# Altium schematic symbol library Flight_Computer1.SCHLIB: 60 symbols (part 2 of 4)
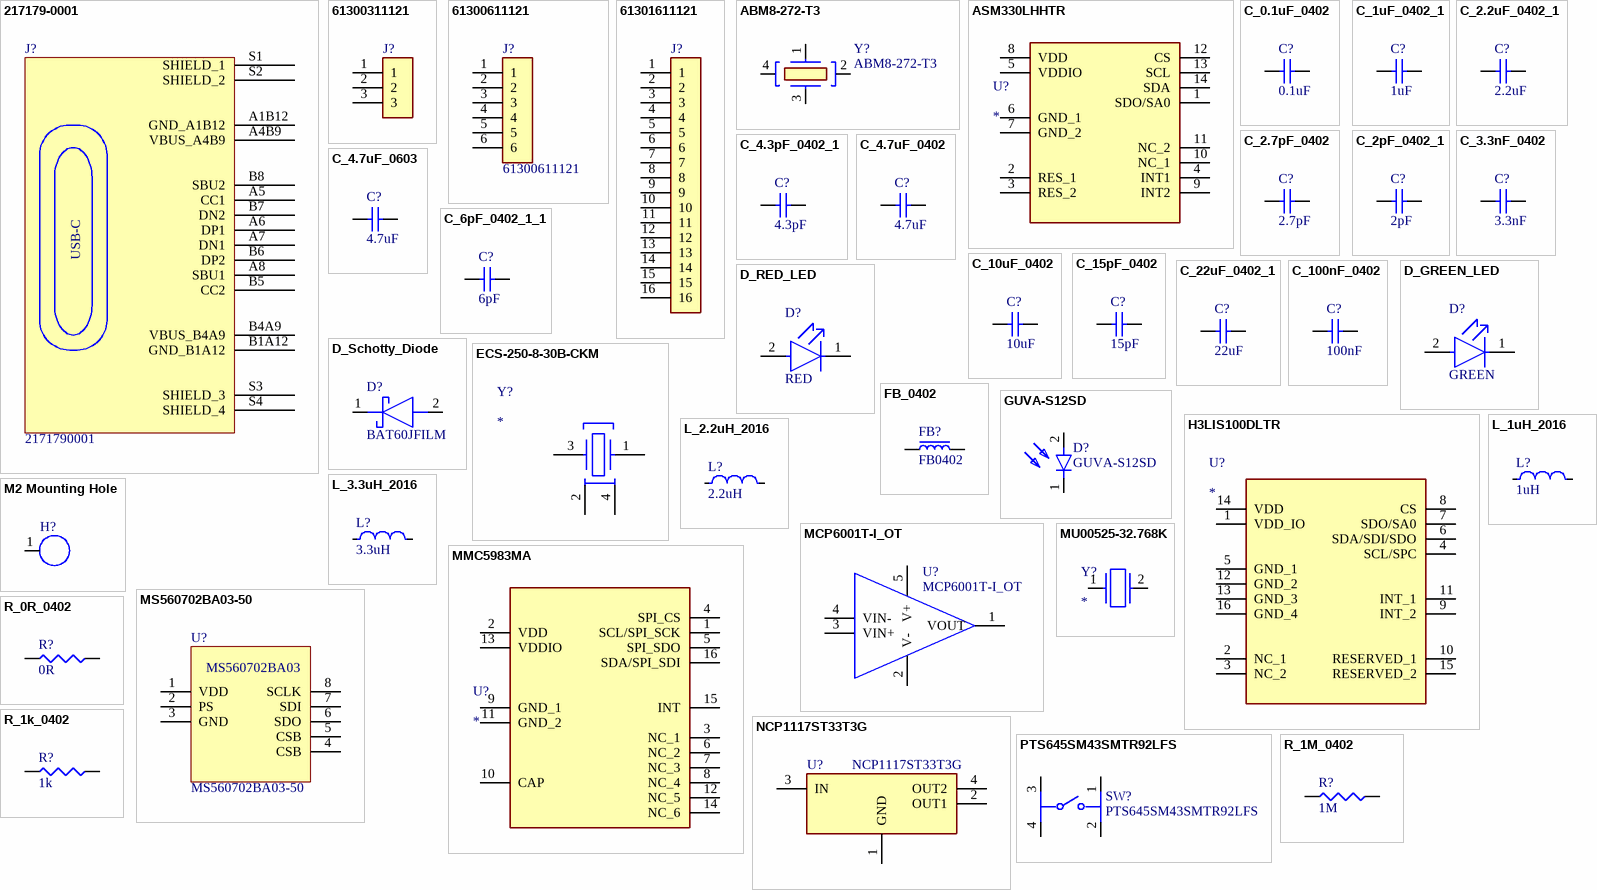
[diagram p2: symbols 217179-0001 to R_1M_0402]

## C_15pF_0402
designator C?, comment 15pF
CAP CER 15PF 50V C0G/NPO 0402; Manufacturer: Yageo Group; Manufacturer Part Number: CC0402FRNPO9BN150; Dielectric: C0G; Dielectric Material: Ceramic; Tolerance: 1%; LCSC Part #: C326803; Supplier: DigiKey; Supplier Part Number: 311-1642-6-ND; RoHS: Compliant; Category: Ceramic Capacitors; Stock: 63811; Pricing: 1=0.1, 10=0.049, 50=0.0334, 100=0.0288, 500=0.021, 1000=0.01861, 2500=0.01608, 5000=0.01457 (USD); Value: 15pF; Case/Package: 0402; Case Code (Imperial): 0402; Case Code (Metric): 1005; China RoHS: Compliant; Composition: Ceramic; Depth: 500µm; Halogen Free: Halogen Free; Height: 500µm; Lead Free: Lead Free; Length: 1mm; Lifecycle Status: Production; Max Operating Temperature: 125°C; Min Operating Temperature: -55°C; Mounting Technology: Surface Mount; Number of Terminals: 2; Packaging: Tape and Reel; Radiation Hardening: No; REACH SVHC: Yes; Schedule B: 8532240020, 8532240020|8532240020, 8532240020|8532240020|8532240020, 8532240020|8532240020|8532240020|8532240020; Termination: SMD/SMT; Thickness: 558.8µm; Voltage Rating: 50V; Voltage Rating (DC): 50V; Weight: 652.039032µg; Width: 500µm; ComponentLink1URL: https://datasheet.octopart.com:443/CC0402FRNPO9BN150-Yageo-datasheet-182140217.pdf?src-supplier=IHS; ComponentLink1Description: https://datasheet.octopart.com:443/CC0402FRNPO9BN150-Yageo-datasheet-182140217.pdf?src-supplier=IHS; ComponentLink2URL: https://datasheet.octopart.com:443/CC0402FRNPO9BN150-Yageo-Group-datasheet-189192896.pdf?src-supplier=TME; ComponentLink2Description: https://datasheet.octopart.com:443/CC0402FRNPO9BN150-Yageo-Group-datasheet-189192896.pdf?src-supplier=TME; ComponentLink3URL: https://datasheet.octopart.com:443/CC0402FRNPO9BN150-Yageo-datasheet-151948684.pdf?src-supplier=element14+APAC; ComponentLink3Description: https://datasheet.octopart.com:443/CC0402FRNPO9BN150-Yageo-datasheet-151948684.pdf?src-supplier=element14+APAC; ComponentLink4URL: https://datasheet.octopart.com:443/CC0402FRNPO9BN150-Yageo-datasheet-181966833.pdf?src-supplier=Farnell; ComponentLink4Description: https://datasheet.octopart.com:443/CC0402FRNPO9BN150-Yageo-datasheet-181966833.pdf?src-supplier=Farnell; ComponentLink5URL: https://datasheet.octopart.com:443/CC0402FRNPO9BN150-Yageo-datasheet-137875056.pdf?src-supplier=Future+Electronics; ComponentLink5Description: https://datasheet.octopart.com:443/CC0402FRNPO9BN150-Yageo-datasheet-137875056.pdf?src-supplier=Future+Electronics; ComponentLink6URL: https://datasheet.octopart.com:443/CC0402FRNPO9BN150-Yageo-datasheet-137700082.pdf?src-supplier=Future+Electronics; ComponentLink6Description: https://datasheet.octopart.com:443/CC0402FRNPO9BN150-Yageo-datasheet-137700082.pdf?src-supplier=Future+Electronics; ComponentLink7URL: https://datasheet.octopart.com:443/CC0402FRNPO9BN150-Yageo-datasheet-78855684.pdf?src-supplier=Future+Electronics; ComponentLink7Description: https://datasheet.octopart.com:443/CC0402FRNPO9BN150-Yageo-datasheet-78855684.pdf?src-supplier=Future+Electronics; ComponentLink8URL: https://datasheet.octopart.com:443/CC0402FRNPO9BN150-Yageo-datasheet-16730043.pdf?src-supplier=Future+Electronics; ComponentLink8Description: https://datasheet.octopart.com:443/CC0402FRNPO9BN150-Yageo-datasheet-16730043.pdf?src-supplier=Future+Electronics; ComponentLink9URL: https://datasheet.octopart.com:443/CC0402FRNPO9BN150-Yageo-datasheet-12589826.pdf?src-supplier=Future+Electronics; ComponentLink9Description: https://datasheet.octopart.com:443/CC0402FRNPO9BN150-Yageo-datasheet-12589826.pdf?src-supplier=Future+Electronics; ComponentLink10URL: https://datasheet.octopart.com:443/CC0402FRNPO9BN150-Yageo-datasheet-10406438.pdf?src-supplier=Future+Electronics; ComponentLink10Description: https://datasheet.octopart.com:443/CC0402FRNPO9BN150-Yageo-datasheet-10406438.pdf?src-supplier=Future+Electronics; ComponentLink11URL: https://datasheet.octopart.com:443/CC0402FRNPO9BN150-Yageo-datasheet-8817079.pdf?src-supplier=Future+Electronics; ComponentLink11Description: https://datasheet.octopart.com:443/CC0402FRNPO9BN150-Yageo-datasheet-8817079.pdf?src-supplier=Future+Electronics; ComponentLink12URL: https://datasheet.octopart.com:443/CC0402FRNPO9BN150-Yageo-datasheet-8324240.pdf?src-supplier=Future+Electronics; ComponentLink12Description: https://datasheet.octopart.com:443/CC0402FRNPO9BN150-Yageo-datasheet-8324240.pdf?src-supplier=Future+Electronics; ComponentLink13URL: https://datasheet.octopart.com:443/CC0402FRNPO9BN150-Yageo-datasheet-504625.pdf?src-supplier=Future+Electronics; ComponentLink13Description: https://datasheet.octopart.com:443/CC0402FRNPO9BN150-Yageo-datasheet-504625.pdf?src-supplier=Future+Electronics; ComponentLink14URL: https://datasheet.octopart.com:443/CC0402FRNPO9BN150-Yageo-datasheet-5321569.pdf?src-supplier=Future+Electronics; ComponentLink14Description: https://datasheet.octopart.com:443/CC0402FRNPO9BN150-Yageo-datasheet-5321569.pdf?src-supplier=Future+Electronics; ComponentLink15URL: http://sigma.octopart.com:80/conflict_mineral_statement/Yageo-company-3.pdf?src-supplier=Compliance+Statements; ComponentLink15Description: http://sigma.octopart.com:80/conflict_mineral_statement/Yageo-company-3.pdf?src-supplier=Compliance+Statements; ComponentLink16URL: http://sigma.octopart.com:80/rohs_statement/Yageo-company-2.pdf?src-supplier=Compliance+Statements; ComponentLink16Description: http://sigma.octopart.com:80/rohs_statement/Yageo-company-2.pdf?src-supplier=Compliance+Statements
footprint 0402_C
pins: 1, 2

## C_22uF_0402_1
designator C?, comment 22uF
CAP CER 22UF 10V X5R 0402; Manufacturer: Murata; Manufacturer Part Number: GRM158R61A226ME15D; Manufacturer Lifecycle Status: IN PRODUCTION; Value: 22µF; Dielectric Material: Ceramic; Tolerance: 20%; Supplier: DigiKey; Supplier Part Number: 490-GRM158R61A226ME15DCT-ND; RoHS: Compliant; Category: Ceramic Capacitors; Stock: 154156; Pricing: 1=0.41, 10=0.247, 50=0.1828, 100=0.1632, 500=0.1301, 1000=0.1199, 2500=0.10912, 8000=0.09979, 16000=0.09611, 24000=0.09372, 40000=0.09107, 56000=0.09089, 80000=0.08732 (USD); Case/Package: 0402; Dielectric: X5R; Height: 800µm; Length: 1mm; Lifecycle Status: Production; Material: Ceramic; Max Operating Temperature: 85°C; Min Operating Temperature: -55°C; Mounting Technology: Surface Mount; Number of Terminals: 2; REACH SVHC: Yes; Thickness: 800µm; Voltage Rating: 10V; Voltage Rating (DC): 10V; Width: 500µm; ComponentLink1URL: https://datasheet.octopart.com:443/GRM158R61A226ME15D-Murata-datasheet-165579666.pdf?src-supplier=TME; ComponentLink1Description: https://datasheet.octopart.com:443/GRM158R61A226ME15D-Murata-datasheet-165579666.pdf?src-supplier=TME; ComponentLink2URL: https://datasheet.octopart.com/GRM158R61A226ME15D-Murata-datasheet-12515295.pdf; ComponentLink2Description: https://datasheet.octopart.com/GRM158R61A226ME15D-Murata-datasheet-12515295.pdf; ComponentLink3URL: https://datasheet.octopart.com/GRM158R61A226ME15D-Murata-datasheet-12510076.pdf; ComponentLink3Description: https://datasheet.octopart.com/GRM158R61A226ME15D-Murata-datasheet-12510076.pdf; ComponentLink4URL: https://datasheet.octopart.com/GRM158R61A226ME15D-Murata-datasheet-11978611.pdf; ComponentLink4Description: https://datasheet.octopart.com/GRM158R61A226ME15D-Murata-datasheet-11978611.pdf; ComponentLink5URL: https://datasheet.octopart.com/GRM158R61A226ME15D-Murata-datasheet-10025737.pdf; ComponentLink5Description: https://datasheet.octopart.com/GRM158R61A226ME15D-Murata-datasheet-10025737.pdf; ComponentLink6URL: https://datasheet.octopart.com/GRM158R61A226ME15D-Murata-datasheet-8819587.pdf; ComponentLink6Description: https://datasheet.octopart.com/GRM158R61A226ME15D-Murata-datasheet-8819587.pdf; ComponentLink7URL: http://sigma.octopart.com:80/reach_statement/Murata-company-16.pdf?src-supplier=Compliance+Statements; ComponentLink7Description: http://sigma.octopart.com:80/reach_statement/Murata-company-16.pdf?src-supplier=Compliance+Statements; LCSC Part #: C3845593
footprint 0402_C
pins: 1, 2

## C_100nF_0402
designator C?, comment 100nF
Ceramic Capacitor, Multilayer, Ceramic, 16V, 10% +Tol, 10% -Tol, X7R, +-15% TC, 100nF, Surface Mount, 0402 inch; Manufacturer: Samsung Electro-Mechanics; Manufacturer Part Number: CL05B104KO5NNNC; Supplier: DigiKey; Supplier Part Number: 1276-1001-1-ND; RoHS: Compliant; Category: Ceramic Capacitors; Stock: 253470; Pricing: 1=0.08, 10=0.009, 50=0.0076, 100=0.0064, 500=0.0056, 1000=0.004, 2500=0.00394 (USD); Value: 100nF; Case/Package: 0402; Case Code (Imperial): 0402; Case Code (Metric): 1005; China RoHS: Compliant; Contact Plating: Tin; Depth: 500µm; Dielectric: X7R; Dielectric Material: Ceramic; Height: 500µm; Lead Free: Lead Free; Length: 1mm; Lifecycle Status: Production; Material: Ceramic; Max Operating Temperature: 125°C; Min Operating Temperature: -55°C; Mounting Technology: Surface Mount; Number of Terminals: 2; Radiation Hardening: No; REACH SVHC: Yes; Schedule B: 8532240020, 8532240020|8532240020|8532240020|8532240020|8532240020|8532240020|8532240020|8532240020|8532240020|8532240020|8532240020|8532240020|8532240020|8532240020|8532240020|8532240020|8532240020|8532240020|8532240020|8532240020|8532240020|8532240020|8532240020|85; Thickness: 558.8µm; Tolerance: 10%; Voltage: 16V; Voltage Rating: 16V; Voltage Rating (DC): 16V; Width: 500µm; ComponentLink1URL: https://datasheet.octopart.com:443/CL05B104KO5NNNC-Samsung-Electro-Mechanics-datasheet-181960518.pdf?src-supplier=IHS; ComponentLink1Description: https://datasheet.octopart.com:443/CL05B104KO5NNNC-Samsung-Electro-Mechanics-datasheet-181960518.pdf?src-supplier=IHS; ComponentLink2URL: https://datasheet.octopart.com:443/CL05B104KO5NNNC-Samsung-Electro-Mechanics-datasheet-81461623.pdf?src-supplier=Upverter; ComponentLink2Description: https://datasheet.octopart.com:443/CL05B104KO5NNNC-Samsung-Electro-Mechanics-datasheet-81461623.pdf?src-supplier=Upverter; ComponentLink3URL: https://datasheet.octopart.com/CL05B104KO5NNNC-Samsung-Electro-Mechanics-datasheet-8324245.pdf; ComponentLink3Description: https://datasheet.octopart.com/CL05B104KO5NNNC-Samsung-Electro-Mechanics-datasheet-8324245.pdf; ComponentLink4URL: https://datasheet.octopart.com/CL05B104KO5NNNC-Samsung-Electro-Mechanics-datasheet-97040617.pdf; ComponentLink4Description: https://datasheet.octopart.com/CL05B104KO5NNNC-Samsung-Electro-Mechanics-datasheet-97040617.pdf; ComponentLink5URL: https://datasheet.octopart.com/General-Multilayer-Ceramic-Capacitors-Samsung-datasheet-family-111.pdf; ComponentLink5Description: https://datasheet.octopart.com/General-Multilayer-Ceramic-Capacitors-Samsung-datasheet-family-111.pdf; ComponentLink6URL: https://datasheet.octopart.com:443/CL05B104KO5NNNC-Samsung-Electro-Mechanics-datasheet-141346863.pdf?src-supplier=Samsung+SCT; ComponentLink6Description: https://datasheet.octopart.com:443/CL05B104KO5NNNC-Samsung-Electro-Mechanics-datasheet-141346863.pdf?src-supplier=Samsung+SCT; ComponentLink7URL: https://datasheet.octopart.com:443/CL05B104KO5NNNC-Samsung-datasheet-151956582.pdf?src-supplier=SOS+electronic; ComponentLink7Description: https://datasheet.octopart.com:443/CL05B104KO5NNNC-Samsung-datasheet-151956582.pdf?src-supplier=SOS+electronic; ComponentLink8URL: https://datasheet.octopart.com:443/CL05B104KO5NNNC-Samsung-datasheet-42485123.pdf?src-supplier=Future+Electronics; ComponentLink8Description: https://datasheet.octopart.com:443/CL05B104KO5NNNC-Samsung-datasheet-42485123.pdf?src-supplier=Future+Electronics; ComponentLink9URL: https://datasheet.octopart.com:443/CL05B104KO5NNNC-Samsung-datasheet-34153835.pdf?src-supplier=Future+Electronics; ComponentLink9Description: https://datasheet.octopart.com:443/CL05B104KO5NNNC-Samsung-datasheet-34153835.pdf?src-supplier=Future+Electronics; ComponentLink10URL: https://datasheet.octopart.com:443/CL05B104KO5NNNC-Samsung-datasheet-26589024.pdf?src-supplier=Future+Electronics; ComponentLink10Description: https://datasheet.octopart.com:443/CL05B104KO5NNNC-Samsung-datasheet-26589024.pdf?src-supplier=Future+Electronics; ComponentLink11URL: https://datasheet.octopart.com:443/CL05B104KO5NNNC-Samsung-Electro-Mechanics-datasheet-149136714.pdf?src-supplier=Future+Electronics; ComponentLink11Description: https://datasheet.octopart.com:443/CL05B104KO5NNNC-Samsung-Electro-Mechanics-datasheet-149136714.pdf?src-supplier=Future+Electronics; ComponentLink12URL: https://datasheet.octopart.com:443/CL05B104KO5NNNC-Samsung-datasheet-59220082.pdf?src-supplier=TME; ComponentLink12Description: https://datasheet.octopart.com:443/CL05B104KO5NNNC-Samsung-datasheet-59220082.pdf?src-supplier=TME; ComponentLink13URL: http://sigma.octopart.com:80/rohs_certificate/General-Multilayer-Ceramic-Capacitors-Samsung-family-110.pdf?src-supplier=Compliance+Statements; ComponentLink13Description: http://sigma.octopart.com:80/rohs_certificate/General-Multilayer-Ceramic-Capacitors-Samsung-family-110.pdf?src-supplier=Compliance+Statements; ComponentLink14URL: http://sigma.octopart.com:80/rohs_statement/General-Multilayer-Ceramic-Capacitors-Samsung-family-132.pdf?src-supplier=Compliance+Statements; ComponentLink14Description: http://sigma.octopart.com:80/rohs_statement/General-Multilayer-Ceramic-Capacitors-Samsung-family-132.pdf?src-supplier=Compliance+Statements; ComponentLink15URL: http://sigma.octopart.com:80/reach_statement/General-Multilayer-Ceramic-Capacitors-Samsung-family-133.pdf?src-supplier=Compliance+Statements; ComponentLink15Description: http://sigma.octopart.com:80/reach_statement/General-Multilayer-Ceramic-Capacitors-Samsung-family-133.pdf?src-supplier=Compliance+Statements; LCSC Part #: C1525
footprint 0402_C
pins: 1, 2

## D_GREEN_LED
designator D?, comment GREEN
Green LED; LCSC Part #: C434446
footprint LEDC1005X35N
pins: 1 C, 2 A

## D_RED_LED
designator D?, comment RED
RED LED; LCSC Part #: C397045
footprint LEDC1005X35N
pins: 1 C, 2 A

## D_Schotty_Diode
designator D?, comment BAT60JFILM
Diode Small Signal Schottky 10V 3A Automotive 2-Pin SOD-323 T/R; Manufacturer: STMicroelectronics; Element Configuration: Single; Forward Voltage: 320mV; Max Forward Surge Current (Ifsm): 5A; Max Junction Temperature (Tj): 150°C; Max Power Dissipation: 310mW; Max Reverse Leakage Current: 7.5µA; Number of Elements: 1; Peak Reverse Current: 2.5µA; Polarity: Standard; Supplier: DigiKey; Supplier Part Number: 497-3707-1-ND; Manufacturer Part Number: BAT60JFILM; RoHS: Compliant; Category: Schottky Diodes; Stock: 96297; Pricing: 1=0.29, 10=0.14, 100=0.1213, 500=0.08962, 1000=0.07938 (USD); Average Rectified Current: 3A; China RoHS: Compliant; Contact Plating: Tin; Current Rating: 3A; Forward Current: 3A; Height: 1.17mm; Lead Free: Lead Free; Length: 1.8mm; Lifecycle Status: Production; Max Operating Temperature: 150°C; Max Output current: 3A; Max Repetitive Reverse Voltage (Vrrm): 10V; Max Reverse Voltage (DC): 10V; Max Surge Current: 5A; Min Operating Temperature: -65°C; Mounting Technology: Surface Mount; Pins: 2; Number of Terminals: 2; Output Current: 3A; Packaging: Tape and Reel; Peak Non-Repetitive Surge Current: 5A; Radiation Hardening: No; REACH SVHC: Yes; Reverse Standoff Voltage: 10V; Schedule B: 8541100080, 8541100080|8541100080|8541100080|8541100080|8541100080|8541100080|8541100080|8541100080|8541100080|8541100080|8541100080|8541100080|8541100080|8541100080|8541100080|8541100080|8541100080|8541100080|8541100080|8541100080|8541100080|8541100080|8541100080|85; Voltage Rating (DC): 10V; Weight: 4.535924g; Width: 1.45mm; ComponentLink1URL: https://datasheet.octopart.com:443/BAT60JFILM-STMicroelectronics-datasheet-56177.pdf?src-supplier=STMicroelectronics; ComponentLink1Description: https://datasheet.octopart.com:443/BAT60JFILM-STMicroelectronics-datasheet-56177.pdf?src-supplier=STMicroelectronics; ComponentLink2URL: https://datasheet.octopart.com:443/BAT60JFILM-STMicroelectronics-datasheet-12532682.pdf?src-supplier=TME; ComponentLink2Description: https://datasheet.octopart.com:443/BAT60JFILM-STMicroelectronics-datasheet-12532682.pdf?src-supplier=TME; ComponentLink3URL: https://datasheet.octopart.com:443/BAT60JFILM-STMicroelectronics-datasheet-181242469.pdf?src-supplier=Newark; ComponentLink3Description: https://datasheet.octopart.com:443/BAT60JFILM-STMicroelectronics-datasheet-181242469.pdf?src-supplier=Newark; ComponentLink4URL: https://datasheet.octopart.com:443/BAT60JFILM-STMicroelectronics-datasheet-14054140.pdf?src-supplier=iiiC; ComponentLink4Description: https://datasheet.octopart.com:443/BAT60JFILM-STMicroelectronics-datasheet-14054140.pdf?src-supplier=iiiC; LCSC Part #: C133103
footprint SOD2513X117N
pins: 1 K, 2 A

## ECS-250-8-30B-CKM
designator Y?
Crystal 25MHz ±10ppm (Tol) ±10ppm (Stability) 8pF FUND 30Ohm 4-Pin Mini-SMD T/R; Manufacturer_Name: ECS; Manufacturer_Part_Number: ECS-250-8-30B-CKM; Manufacturer: ECS International; ESR (Equivalent Series Resistance): 30Ω; Frequency Tolerance: 0.001%; Datasheet Link: https://ecsxtal.com/store/pdf/ecx_53b.pdf; Height: 0.85mm; Mouser Part Number: 520-250-8-30B-CKM; Mouser Price/Stock: https://www.mouser.com/Search/Refine.aspx?Keyword=520-250-8-30B-CKM; Arrow Part Number: ECS-250-8-30B-CKM; Arrow Price/Stock: https://www.arrow.com/en/products/ecs-250-8-30b-ckm/ecs-international?utm_currency=USD&region=nac; Supplier: DigiKey; Supplier Part Number: XC1843CT-ND; Manufacturer Part Number: ECS-250-8-30B-CKM; RoHS: Compliant; Category: Crystals; Stock: 32779; Pricing: 1=0.61, 10=0.528, 25=0.4992, 50=0.4788, 100=0.4589, 250=0.4424 (USD); Case/Package: SMD/SMT; Frequency: 25MHz; Frequency Stability: 10ppm; Lead Free: Lead Free; Length: 5.0038mm; Load Capacitance: 8pF; Max Operating Temperature: 70°C; Min Operating Temperature: -20°C; Mounting Technology: Surface Mount; Schedule B: 8541600060, 8541600060|8541600060|8541600060|8541600060|8541600060|8541600060|8541600060|8541600060|8541600060|8541600060|8541600060|8541600060|8541600060|8541600060, 8541600060|8541600060|8541600060|8541600060|8541600060|8541600060|8541600060|8541600060|8541600060|8541600060|8541600060|8541600060|8541600060|8541600060|8541600060, 8541600060|8541600060|8541600060|8541600060|8541600060|8541600060|8541600060|8541600060|8541600060|8541600060|8541600060|8541600060|8541600060|8541600060|8541600060|8541600060; Termination: SMD/SMT; Tolerance: 0.001%; Width: 3.2mm; ComponentLink1URL: https://datasheet.octopart.com:443/ECS-250-8-30B-CKM-ECS-International-datasheet-17018651.pdf?src-supplier=Electro+Sonic; ComponentLink1Description: https://datasheet.octopart.com:443/ECS-250-8-30B-CKM-ECS-International-datasheet-17018651.pdf?src-supplier=Electro+Sonic; ComponentLink2URL: https://datasheet.octopart.com:443/ECS-250-8-30B-CKM-ECS-International-datasheet-145012644.pdf?src-supplier=Electro+Sonic; ComponentLink2Description: https://datasheet.octopart.com:443/ECS-250-8-30B-CKM-ECS-International-datasheet-145012644.pdf?src-supplier=Electro+Sonic; LCSC Part #: C435192
footprint ECS250830BCKM
pins: 1, 2 "GND", 3, 4 "GND"

## FB_0402
designator FB?, comment FB0402
Ferrite Beads Multi-Layer 600Ohm 25% 100MHz 300mA 520mOhm DCR 0402 Paper T/R; Manufacturer: Murata Electronics; Manufacturer Part Number: BLM15AG601SN1D; DC Resistance (DCR): 520mΩ; Impedance: 600Ω; Material: Ferrite, Steel; Number of Circuits: 1; Shielding: Unshielded; Distributor Link: *; LCSC Part #: C76884; Supplier: DigiKey; Supplier Part Number: 490-1006-1-ND; RoHS: Compliant; Category: Ferrite Beads and Chips; Stock: 347218; Pricing: 1=0.1, 10=0.043, 25=0.0376, 50=0.034, 100=0.0305, 250=0.02632, 500=0.02346, 1000=0.02083, 5000=0.01546, 10000=0.01341, 20000=0.01188 (USD); Case/Package: 0402; Case Code (Imperial): 0402; Case Code (Metric): 1005; Core Material: Ferrite; Current Rating: 300mA; DC Current: 300mA; Depth: 550µm; Frequency: 100MHz; Height: 500µm; Lead Free: Lead Free; Length: 1mm; Lifecycle Status: Production; Max Current Rating: 300mA; Max DC Current: 300mA; Clock Frequency: 100MHz; Max Operating Temperature: 125°C; Military Standard: Not; Min Operating Temperature: -55°C; Number of Lines: 1; Pins: 2; Number of Terminals: 2; Packaging: Tape and Reel; Radiation Hardening: No; REACH SVHC: Yes; RMS Current (Irms): 300mA; Schedule B: 8504500000, 8504500000|8504500000, 8504500000|8504500000|8504500000, 8504500000|8504500000|8504500000|8504500000; ESR: 520mΩ; Termination: SMD/SMT; Test Frequency: 100MHz; Tolerance: 25%; Width: 500µm; ComponentLink1URL: https://datasheet.octopart.com:443/BLM15AG601SN1D-Murata-datasheet-180806368.pdf?src-supplier=Newark; ComponentLink1Description: https://datasheet.octopart.com:443/BLM15AG601SN1D-Murata-datasheet-180806368.pdf?src-supplier=Newark; ComponentLink2URL: https://datasheet.octopart.com:443/BLM15AG601SN1D-Murata-datasheet-12522583.pdf?src-supplier=Upverter; ComponentLink2Description: https://datasheet.octopart.com:443/BLM15AG601SN1D-Murata-datasheet-12522583.pdf?src-supplier=Upverter; ComponentLink3URL: https://datasheet.octopart.com:443/BLM15AG601SN1D-Murata-datasheet-10083551.pdf?src-supplier=Upverter; ComponentLink3Description: https://datasheet.octopart.com:443/BLM15AG601SN1D-Murata-datasheet-10083551.pdf?src-supplier=Upverter; ComponentLink4URL: https://datasheet.octopart.com:443/BLM15AG601SN1D-Murata-datasheet-8508678.pdf?src-supplier=Upverter; ComponentLink4Description: https://datasheet.octopart.com:443/BLM15AG601SN1D-Murata-datasheet-8508678.pdf?src-supplier=Upverter; ComponentLink5URL: https://datasheet.octopart.com:443/BLM15AG601SN1D-Murata-datasheet-70271.pdf?src-supplier=element14+APAC; ComponentLink5Description: https://datasheet.octopart.com:443/BLM15AG601SN1D-Murata-datasheet-70271.pdf?src-supplier=element14+APAC; ComponentLink6URL: https://datasheet.octopart.com:443/BLM15AG601SN1D-Murata-datasheet-11772092.pdf?src-supplier=Future+Electronics; ComponentLink6Description: https://datasheet.octopart.com:443/BLM15AG601SN1D-Murata-datasheet-11772092.pdf?src-supplier=Future+Electronics; ComponentLink7URL: https://datasheet.octopart.com:443/BLM15AG601SN1D-Murata-datasheet-13536432.pdf?src-supplier=Future+Electronics; ComponentLink7Description: https://datasheet.octopart.com:443/BLM15AG601SN1D-Murata-datasheet-13536432.pdf?src-supplier=Future+Electronics; ComponentLink8URL: https://datasheet.octopart.com:443/BLM15AG601SN1D-Murata-datasheet-79879196.pdf?src-supplier=Future+Electronics; ComponentLink8Description: https://datasheet.octopart.com:443/BLM15AG601SN1D-Murata-datasheet-79879196.pdf?src-supplier=Future+Electronics; ComponentLink9URL: https://datasheet.octopart.com:443/BLM15AG601SN1D-Murata-datasheet-13563506.pdf?src-supplier=Future+Electronics; ComponentLink9Description: https://datasheet.octopart.com:443/BLM15AG601SN1D-Murata-datasheet-13563506.pdf?src-supplier=Future+Electronics; ComponentLink10URL: https://datasheet.octopart.com:443/BLM15AG601SN1D-Murata-datasheet-12545319.pdf?src-supplier=Future+Electronics; ComponentLink10Description: https://datasheet.octopart.com:443/BLM15AG601SN1D-Murata-datasheet-12545319.pdf?src-supplier=Future+Electronics; ComponentLink11URL: https://datasheet.octopart.com:443/BLM15AG601SN1D-Murata-datasheet-141257741.pdf?src-supplier=Ciiva; ComponentLink11Description: https://datasheet.octopart.com:443/BLM15AG601SN1D-Murata-datasheet-141257741.pdf?src-supplier=Ciiva; ComponentLink12URL: https://datasheet.octopart.com:443/BLM15AG601SN1D-Murata-datasheet-138706486.pdf?src-supplier=Ciiva; ComponentLink12Description: https://datasheet.octopart.com:443/BLM15AG601SN1D-Murata-datasheet-138706486.pdf?src-supplier=Ciiva; ComponentLink13URL: https://datasheet.octopart.com:443/BLM15AG601SN1D-Murata-datasheet-155367977.pdf?src-supplier=TME; ComponentLink13Description: https://datasheet.octopart.com:443/BLM15AG601SN1D-Murata-datasheet-155367977.pdf?src-supplier=TME; ComponentLink14URL: https://datasheet.octopart.com:443/BLM15AG601SN1D-Murata-datasheet-65816644.pdf?src-supplier=TME; ComponentLink14Description: https://datasheet.octopart.com:443/BLM15AG601SN1D-Murata-datasheet-65816644.pdf?src-supplier=TME; ComponentLink15URL: https://datasheet.octopart.com:443/BLM15AG601SN1D-Murata-datasheet-102761981.pdf?src-supplier=Megastar; ComponentLink15Description: https://datasheet.octopart.com:443/BLM15AG601SN1D-Murata-datasheet-102761981.pdf?src-supplier=Megastar; ComponentLink16URL: https://datasheet.octopart.com/BLM15AG601SN1D-Murata-datasheet-37129980.pdf; ComponentLink16Description: https://datasheet.octopart.com/BLM15AG601SN1D-Murata-datasheet-37129980.pdf; ComponentLink17URL: https://datasheet.octopart.com:443/BLM15AG601SN1D-Murata-datasheet-14066398.pdf?src-supplier=iiiC; ComponentLink17Description: https://datasheet.octopart.com:443/BLM15AG601SN1D-Murata-datasheet-14066398.pdf?src-supplier=iiiC; ComponentLink18URL: http://sigma.octopart.com:80/reach_statement/Murata-company-16.pdf?src-supplier=Compliance+Statements; ComponentLink18Description: http://sigma.octopart.com:80/reach_statement/Murata-company-16.pdf?src-supplier=Compliance+Statements
footprint 0402_R
pins: 1, 2

## GUVA-S12SD
designator D?
SENSOR PHOTODIODE 2SMD; Manufacturer_Name: Genicom Co.; Datasheet Link: https://mm.digikey.com/Volume0/opasdata/d220001/medias/docus/6128/GUVA-S12SD%20%282%29.pdf; Height: 1.95mm; Manufacturer_Part_Number: GUVA-S12SD; LCSC Part #: C7200747
footprint GUVAS12SD
pins: 1 K, 2 A

## H3LIS100DLTR
designator U?
ACCELEROMETER 100G I2C/SPI 16LGA; Manufacturer_Name: STMicroelectronics; Manufacturer_Part_Number: H3LIS100DLTR; Axis: X, Y, Z; Bandwidth: 200Hz; Max Supply Voltage: 3.6V; Min Supply Voltage: 2.16V; Number of Circuits: 1; Operating Supply Voltage: 2.5V; Output Type: Digital; Datasheet Link: https://www.st.com/resource/en/datasheet/h3lis100dl.pdf; Height: 1mm; Mouser Part Number: 511-H3LIS100DLTR; Mouser Price/Stock: https://www.mouser.co.uk/ProductDetail/STMicroelectronics/H3LIS100DLTR?qs=v3MacVxtdDLHj8sdza6BGw%3D%3D; Arrow Part Number: H3LIS100DLTR; Arrow Price/Stock: https://www.arrow.com/en/products/h3lis100dltr/stmicroelectronics?region=nac; Supplier: DigiKey; Supplier Part Number: 497-15697-1-ND; Manufacturer: STMicroelectronics; Manufacturer Part Number: H3LIS100DLTR; RoHS: Compliant; Category: Accelerometers; Stock: 8694; Pricing: 1=6.69, 5=6.03, 10=5.783, 25=5.4888, 50=5.2876, 100=5.1032, 500=4.88678 (USD); Case/Package: LGA; China RoHS: Non-Compliant; Height - Seated (Max): 1mm; Lead Free: Lead Free; Length: 3mm; Lifecycle Status: Production; Max Operating Temperature: 85°C; Min Operating Temperature: -40°C; Mounting Technology: Surface Mount; Pins: 16; Number of Terminals: 16; REACH SVHC: No; Schedule B: 8542390000, 8542390000|8542390000|8542390000|8542390000|8542390000|8542390000|8542390000|8542390000|8542390000|8542390000|8542390000|8542390000|8542390000|8542390000|8542390000|8542390000|8542390000|8542390000|8542390000|8542390000|8542390000|8542390000|8542390000|85; Terminal Pitch: 500µm; Width: 3mm; ComponentLink1URL: https://datasheet.octopart.com:443/H3LIS100DLTR-STMicroelectronics-datasheet-181243375.pdf?src-supplier=IHS; ComponentLink1Description: https://datasheet.octopart.com:443/H3LIS100DLTR-STMicroelectronics-datasheet-181243375.pdf?src-supplier=IHS; ComponentLink2URL: https://datasheet.octopart.com:443/H3LIS100DLTR-STMicroelectronics-datasheet-41189296.pdf?src-supplier=element14+APAC; ComponentLink2Description: https://datasheet.octopart.com:443/H3LIS100DLTR-STMicroelectronics-datasheet-41189296.pdf?src-supplier=element14+APAC; LCSC Part #: C2655068
footprint H3LIS100DLTR
pins: 1 VDD_IO, 2 NC_1, 3 NC_2, 4 SCL/SPC, 5 GND_1, 6 SDA/SDI/SDO, 7 SDO/SA0, 8 CS, 9 INT_2, 10 RESERVED_1, 11 INT_1, 12 GND_2, 13 GND_3, 14 VDD, 15 RESERVED_2, 16 GND_4

## L_1uH_2016
designator L?, comment 1uH
FIXED IND 1UH 1.7A 128 MOHM SMD; Manufacturer: Murata; Manufacturer Part Number: DFE201610E-2R2M=P2; Manufacturer Lifecycle Status: IN PRODUCTION; DC Resistance (DCR): 140mΩ; Value: 2.2µH; Inductance Tolerance: 20%; Number of Circuits: 1; Saturation Current: 2.4A; Shielding: Yes; Test Frequency: 1MHz; Core Material: Metal; Supplier: DigiKey; Supplier Part Number: 490-17728-1-ND; RoHS: Compliant; Category: Fixed Inductors; Stock: 158333; Pricing: 1=0.24, 10=0.2, 100=0.1645, 1000=0.13528 (USD); Case/Package: 0806; Composition: Wirewound; Current Rating: 1.7A; Height: 1mm; Lifecycle Status: Production; Max Current Rating: 1.7A; Max Operating Temperature: 125°C; Min Operating Temperature: -40°C; Number of Terminals: 2; Packaging: Cut Tape; REACH SVHC: Yes; RMS Current (Irms): 1.7A; Schedule B: 8504500000; ESR: 140mΩ; Tolerance: 20%; Width: 1.6mm; Ambient Temperature Range High: 85°C; ComponentLink1URL: https://datasheet.octopart.com:443/DFE18SAN1R0MG0L-Murata-datasheet-141261288.pdf?src-supplier=Ciiva; ComponentLink1Description: https://datasheet.octopart.com:443/DFE18SAN1R0MG0L-Murata-datasheet-141261288.pdf?src-supplier=Ciiva; ComponentLink2URL: https://datasheet.octopart.com:443/DFE18SAN1R0MG0L-Murata-datasheet-140650244.pdf?src-supplier=Ciiva; ComponentLink2Description: https://datasheet.octopart.com:443/DFE18SAN1R0MG0L-Murata-datasheet-140650244.pdf?src-supplier=Ciiva; ComponentLink3URL: https://datasheet.octopart.com:443/DFE18SAN1R0MG0L-Murata-datasheet-138707311.pdf?src-supplier=Ciiva; ComponentLink3Description: https://datasheet.octopart.com:443/DFE18SAN1R0MG0L-Murata-datasheet-138707311.pdf?src-supplier=Ciiva; ComponentLink4URL: https://datasheet.octopart.com:443/DFE18SAN1R0MG0L-Murata-datasheet-140568518.pdf?src-supplier=Arrow.cn; ComponentLink4Description: https://datasheet.octopart.com:443/DFE18SAN1R0MG0L-Murata-datasheet-140568518.pdf?src-supplier=Arrow.cn; ComponentLink5URL: https://datasheet.octopart.com:443/DFE18SAN1R0MG0L-Murata-datasheet-169352396.pdf?src-supplier=Arrow.cn; ComponentLink5Description: https://datasheet.octopart.com:443/DFE18SAN1R0MG0L-Murata-datasheet-169352396.pdf?src-supplier=Arrow.cn; ComponentLink6URL: https://datasheet.octopart.com:443/DFE18SAN1R0MG0L-Murata-datasheet-145448863.pdf?src-supplier=Geoflip; ComponentLink6Description: https://datasheet.octopart.com:443/DFE18SAN1R0MG0L-Murata-datasheet-145448863.pdf?src-supplier=Geoflip; ComponentLink7URL: http://sigma.octopart.com:80/reach_statement/Murata-company-16.pdf?src-supplier=Compliance+Statements; ComponentLink7Description: http://sigma.octopart.com:80/reach_statement/Murata-company-16.pdf?src-supplier=Compliance+Statements; LCSC Part #: C560043
footprint AOTAB201610S3R3101T
pins: 1, 2

## L_2.2uH_2016
designator L?, comment 2.2uH
FIXED IND 2.2UH 1.7A 140MOHM SMD; Manufacturer: Murata; Manufacturer Part Number: DFE201610E-2R2M=P2; Manufacturer Lifecycle Status: IN PRODUCTION; DC Resistance (DCR): 140mΩ; Value: 2.2µH; Inductance Tolerance: 20%; Number of Circuits: 1; Saturation Current: 2.4A; Shielding: Yes; Test Frequency: 1MHz; Supplier: DigiKey; Supplier Part Number: 490-17728-1-ND; RoHS: Compliant; Category: Fixed Inductors; Stock: 158333; Pricing: 1=0.24, 10=0.2, 100=0.1645, 1000=0.13528 (USD); Case/Package: 0806; Composition: Wirewound; Current Rating: 1.7A; Height: 1mm; Lifecycle Status: Production; Max Current Rating: 1.7A; Max Operating Temperature: 125°C; Min Operating Temperature: -40°C; Number of Terminals: 2; Packaging: Cut Tape; REACH SVHC: Yes; RMS Current (Irms): 1.7A; Schedule B: 8504500000; ESR: 140mΩ; Tolerance: 20%; Width: 1.6mm; ComponentLink1URL: https://datasheet.octopart.com:443/DFE201610E-2R2M%3DP2-Murata-datasheet-90967093.pdf?src-supplier=element14+APAC; ComponentLink1Description: https://datasheet.octopart.com:443/DFE201610E-2R2M%3DP2-Murata-datasheet-90967093.pdf?src-supplier=element14+APAC; ComponentLink2URL: https://datasheet.octopart.com:443/DFE201610E-2R2M%3DP2-Murata-datasheet-141261314.pdf?src-supplier=Ciiva; ComponentLink2Description: https://datasheet.octopart.com:443/DFE201610E-2R2M%3DP2-Murata-datasheet-141261314.pdf?src-supplier=Ciiva; ComponentLink3URL: https://datasheet.octopart.com:443/DFE201610E-2R2M%3DP2-Murata-datasheet-140650587.pdf?src-supplier=Ciiva; ComponentLink3Description: https://datasheet.octopart.com:443/DFE201610E-2R2M%3DP2-Murata-datasheet-140650587.pdf?src-supplier=Ciiva; ComponentLink4URL: https://datasheet.octopart.com:443/DFE201610E-2R2M%3DP2-Murata-datasheet-138707382.pdf?src-supplier=Ciiva; ComponentLink4Description: https://datasheet.octopart.com:443/DFE201610E-2R2M%3DP2-Murata-datasheet-138707382.pdf?src-supplier=Ciiva; ComponentLink5URL: https://datasheet.octopart.com:443/DFE201610E-2R2M%3DP2-Murata-datasheet-142045592.pdf?src-supplier=Arrow.cn; ComponentLink5Description: https://datasheet.octopart.com:443/DFE201610E-2R2M%3DP2-Murata-datasheet-142045592.pdf?src-supplier=Arrow.cn; ComponentLink6URL: https://datasheet.octopart.com:443/DFE201610E-2R2M%3DP2-Murata-datasheet-140568530.pdf?src-supplier=Arrow.cn; ComponentLink6Description: https://datasheet.octopart.com:443/DFE201610E-2R2M%3DP2-Murata-datasheet-140568530.pdf?src-supplier=Arrow.cn; ComponentLink7URL: https://datasheet.octopart.com:443/DFE201610E-2R2M%3DP2-Murata-datasheet-145448870.pdf?src-supplier=Geoflip; ComponentLink7Description: https://datasheet.octopart.com:443/DFE201610E-2R2M%3DP2-Murata-datasheet-145448870.pdf?src-supplier=Geoflip; ComponentLink8URL: http://sigma.octopart.com:80/reach_statement/Murata-company-16.pdf?src-supplier=Compliance+Statements; ComponentLink8Description: http://sigma.octopart.com:80/reach_statement/Murata-company-16.pdf?src-supplier=Compliance+Statements; LCSC Part #: C337891
footprint AOTAB201610S3R3101T
pins: 1, 2

## L_3.3uH_2016
designator L?, comment 3.3uH
Power Inductor, 3.3UH, 2.3A, 20% Rohs Compliant: Yes; Manufacturer: Abracon; Manufacturer Part Number: AOTA-B201610S3R3-101-T; Value: 3.3µH; Supplier: DigiKey; Supplier Part Number: 535-AOTA-B201610S3R3-101-TCT-ND; RoHS: Compliant; Category: Fixed Inductors; Stock: 9663; Pricing: 1=0.22, 10=0.182, 100=0.1497, 1000=0.12273 (USD); ComponentLink1URL: https://datasheet.octopart.com:443/AOTA-B201610S3R3-101-T-Abracon-datasheet-188850378.pdf?src-supplier=TME; ComponentLink1Description: https://datasheet.octopart.com:443/AOTA-B201610S3R3-101-T-Abracon-datasheet-188850378.pdf?src-supplier=TME; ComponentLink2URL: http://sigma.octopart.com:80/conflict_mineral_statement/Abracon-company-27.pdf?src-supplier=Compliance+Statements; ComponentLink2Description: http://sigma.octopart.com:80/conflict_mineral_statement/Abracon-company-27.pdf?src-supplier=Compliance+Statements; LCSC Part #: C42411119
footprint AOTAB201610S3R3101T
pins: 1, 2

## M2 Mounting Hole
designator H?, comment M2  (value not drawn)
2mm M2 Mounting Hole
footprint Mounting Hole
pins: 1

## MCP6001T-I_OT
designator U?
Integrated Circuit; Manufacturer_Name: Microchip; Manufacturer_Part_Number: MCP6001T-I/OT; Datasheet Link: https://datasheet.datasheetarchive.com/originals/distributors/Datasheets-34/DSA-675098.pdf; Height: 1.45mm; Mouser Part Number: 579-MCP6001T-I/OT; Mouser Price/Stock: https://www.mouser.co.uk/ProductDetail/Microchip-Technology/MCP6001T-I-OT?qs=Q%2Fw7XRh99iki9dglS7IqJg%3D%3D; Arrow Part Number: MCP6001T-I/OT; Arrow Price/Stock: https://www.arrow.com/en/products/mcp6001t-iot/microchip-technology?utm_currency=USD&region=nac; LCSC Part #: C116490
footprint SOT95P270X145-5N
pins: 1 VOUT, 2 V-, 3 VIN+, 4 VIN-, 5 V+

## MMC5983MA
designator U?
8 Gauss, High Performance 3-axis Magnetic Sensor Automotive AEC-Q100; Manufacturer_Name: MEMSIC; Manufacturer_Part_Number: MMC5983MA; Max Supply Voltage: 3.6V; Min Supply Voltage: 2.8V; Sensing Method: Magnetoresistive; Datasheet Link: https://www.mouser.com/datasheet/2/821/Memsic_09102019_MMC5983MA_Datasheet_Rev_A-1635338.pdf; Height: 1mm; Mouser Part Number: 438-MMC5983MA; Mouser Price/Stock: https://www.mouser.co.uk/ProductDetail/MEMSIC/MMC5983MA?qs=B6kkDfuK7%2FD5qasHMdEt2g%3D%3D; Arrow Part Number: MMC5983MA; Arrow Price/Stock: https://www.arrow.com/en/products/mmc5983ma/memsic?utm_currency=USD&region=nac; Supplier: DigiKey; Supplier Part Number: 1267-MMC5983MACT-ND; Manufacturer: Memsic; Manufacturer Part Number: MMC5983MA; RoHS: Compliant; Category: Linear ICs; Stock: 65243; Pricing: 1=2.79, 5=2.49, 10=2.378, 25=2.244, 50=2.1522, 100=2.0681, 500=1.899, 1000=1.83604 (USD); Length: 3mm; Max Operating Temperature: 105°C; Min Operating Temperature: -40°C; Mounting Technology: Surface Mount; Number of Terminals: 16; REACH SVHC: Yes; ComponentLink1URL: https://datasheet.octopart.com:443/MMC5983MA-Memsic-datasheet-180628270.pdf?src-supplier=IHS; ComponentLink1Description: https://datasheet.octopart.com:443/MMC5983MA-Memsic-datasheet-180628270.pdf?src-supplier=IHS; ComponentLink2URL: https://datasheet.octopart.com:443/MMC5983MA-Memsic-datasheet-160655074.pdf?src-supplier=Upverter; ComponentLink2Description: https://datasheet.octopart.com:443/MMC5983MA-Memsic-datasheet-160655074.pdf?src-supplier=Upverter; LCSC Part #: C404329
footprint MMC5983MA_MEM
pins: 1 SCL/SPI_SCK, 2 VDD, 3 NC_1, 4 SPI_CS, 5 SPI_SDO, 6 NC_2, 7 NC_3, 8 NC_4, 9 GND_1, 10 CAP, 11 GND_2, 12 NC_5, 13 VDDIO, 14 NC_6, 15 INT, 16 SDA/SPI_SDI

## MS560702BA03-50
designator U?
SENSOR 17.4PSIA 24BIT 8SMD; Manufacturer: TE Connectivity; Package Shape/Style: Rectangular; Output Type: DIGITAL VOLTAGE; Accuracy-Max (%): 4%; Number of Bits: 24; Operating Current-Max: 1.4mA; Output Interface Type: I2C; Output Range: 0-3V; Pressure Range-Max: 15.95PSI; Pressure Range-Min: 4.351PSI; Pressure Type: Barometric; Response Time: 8220us; Sensor Type: PRESSURE SENSOR,PEIZORESISTIVE; Max Supply Voltage: 3.6V; Min Supply Voltage: 1.8V; Body Breadth: 3mm; Body Height: 0.95mm; Body Length or Diameter: 5mm; Supplier: Digikey; Supplier Part Number: 223-1198-1-ND; Manufacturer Part Number: MS560702BA03-50; RoHS: Yes; Category: Pressure Sensors; Stock: 43971; Pricing: 1=9.05, 5=8.384, 10=7.721, 25=7.436, 50=6.9272, 100=5.8731, 500=5.46908, 1000=5.89422, 3600=5.375 (USD); Mounting Technology: Surface Mount; Min Operating Temperature: -40°C; Max Operating Temperature: 85°C; Termination: Solder; Reach SVHC Compliant: No; RoHS Compliant: Yes; ComponentLink1URL: https://www.te.com:443/usa-en/product-MS560702BA03-50.datasheet.pdf?src-supplier=IHS+Markit; ComponentLink1Description: https://www.te.com:443/usa-en/product-MS560702BA03-50.datasheet.pdf?src-supplier=IHS+Markit; ComponentLink2URL: http://www.farnell.com/datasheets/1756127.pdf?src-supplier=Farnell; ComponentLink2Description: http://www.farnell.com/datasheets/1756127.pdf?src-supplier=Farnell; ComponentLink3URL: https://datasheet.octopart.com/MS560702BA03-50-TE-Connectivity-datasheet-21074431.pdf?src-supplier=Element14; ComponentLink3Description: https://datasheet.octopart.com/MS560702BA03-50-TE-Connectivity-datasheet-21074431.pdf?src-supplier=Element14; ComponentLink4URL: https://www.te.com/commerce/DocumentDelivery/DDEController?Action=srchrtrv&DocNm=MS5607-02BA03&DocType=Data+Sheet&DocLang=English&src-supplier=Digikey; ComponentLink4Description: https://www.te.com/commerce/DocumentDelivery/DDEController?Action=srchrtrv&DocNm=MS5607-02BA03&DocType=Data+Sheet&DocLang=English&src-supplier=Digikey; ComponentLink5URL: https://datasheet.octopart.com/MS560702BA03-50-TE-Connectivity-datasheet-176112741.pdf?src-supplier=Future+Electronics; ComponentLink5Description: https://datasheet.octopart.com/MS560702BA03-50-TE-Connectivity-datasheet-176112741.pdf?src-supplier=Future+Electronics; ComponentLink6URL: https://datasheet.octopart.com/MS560702BA03-50-TE-Connectivity-datasheet-65793091.pdf?src-supplier=Sager+Electronics; ComponentLink6Description: https://datasheet.octopart.com/MS560702BA03-50-TE-Connectivity-datasheet-65793091.pdf?src-supplier=Sager+Electronics; LCSC Part #: C97627
footprint MS5607-02BA03
pins: 1 VDD , 2 PS, 3 GND, 4 CSB, 5 CSB, 6 SDO, 7 SDI, 8 SCLK
text: MS560702BA03

## MU00525-32.768K
designator Y?
CRYSTAL 32.7680KHZ 6PF SMD; Manufacturer_Name: NDK; Manufacturer_Part_Number: MU00525-32.768K; Datasheet Link: https://www.ndk.com/images/products/catalog/c_NX3215SA_e.pdf; Height: 0.9mm; LCSC Part #: C528987
footprint MU0052532768K
pins: 1, 2

## NCP1117ST33T3G
designator U?
Integrated Circuit; Manufacturer_Name: onsemi; Datasheet Link: https://www.onsemi.com/pub/Collateral/NCP1117-D.PDF; Height: 1.8mm; Manufacturer_Part_Number: NCP1117ST33T3G; Mouser Part Number: 863-NCP1117ST33T3G; Mouser Price/Stock: https://www.mouser.co.uk/ProductDetail/onsemi/NCP1117ST33T3G?qs=Gev%252BmEvV0iZb%2FE8ahUDx3w%3D%3D; Arrow Part Number: NCP1117ST33T3G; Arrow Price/Stock: https://www.arrow.com/en/products/ncp1117st33t3g/on-semiconductor?utm_currency=USD&region=europe; LCSC Part #: C26537
footprint SOT230P700X180-4N
pins: 1 GND, 2 OUT1, 3 IN, 4 OUT2

## PTS645SM43SMTR92LFS
designator SW?
SWITCH TACTILE SPST-NO 0.05A 12V; Manufacturer: ITT C&K; Actuator Type: Pushbutton; Contact Current(DC)-Max: 50mA; Contact DC Max Rating R Load: 0.05A@12VDC; Contact Resistance: 0.1mR; Dielectric Withstand Volts: 250VACV; Electrical Life: 100000Cycles; Insulation Resistance: 100GR; PCB Hole Count: 4; Switch Action: MOMENTARY; Switch Function: SPST; Switch Type: Keypad; Body Breadth: 5.9944inch; Body Height: 3.4544mm; Body Length or Diameter: 5.9944mm; Supplier: Digikey; Supplier Part Number: CKN9112CT-ND; Manufacturer Part Number: PTS645SM43SMTR92LFS; RoHS: Yes; Category: Tactile Switches; Stock: 265346; Pricing: 1=0.32, 10=0.308, 25=0.2916, 100=0.2641, 250=0.24072, 500=0.22376, 1000=0.19594, 2000=0.18353, 3000=0.17657, 5000=0.16812, 7000=0.16274, 10000=0.15719, 25000=0.14361, 50000=0.13395 (USD); Mounting Technology: Surface Mount; Terminal Finish: Silver; Min Operating Temperature: -20°C; Max Operating Temperature: 60°C; JESD-609 Code: e4; Contact Voltage(DC)-Max: 12V; Termination: Solder; Terminal Length: 0.138inch; Reach SVHC Compliant: Yes; RoHS Compliant: Yes; ComponentLink1URL: https://datasheet.ciiva.com:443/pdfs/VipMasterIC/IC/CKCI/CKCI-S-A0001796527/CKCI-S-A0001796842-1.pdf?src-supplier=IHS+Markit; ComponentLink1Description: https://datasheet.ciiva.com:443/pdfs/VipMasterIC/IC/CKCI/CKCI-S-A0001796527/CKCI-S-A0001796842-1.pdf?src-supplier=IHS+Markit; ComponentLink2URL: https://datasheet.ciiva.com/29903/getdatasheetpartid-786341-29903846.pdf?src-supplier=Verical; ComponentLink2Description: https://datasheet.ciiva.com/29903/getdatasheetpartid-786341-29903846.pdf?src-supplier=Verical; ComponentLink3URL: https://datasheet.ciiva.com/29931/getdatasheetpartid-764615-29931183.pdf?src-supplier=Verical; ComponentLink3Description: https://datasheet.ciiva.com/29931/getdatasheetpartid-764615-29931183.pdf?src-supplier=Verical; ComponentLink4URL: https://datasheet.ciiva.com/14920/pts645-14920733.pdf?src-supplier=Digikey; ComponentLink4Description: https://datasheet.ciiva.com/14920/pts645-14920733.pdf?src-supplier=Digikey; ComponentLink5URL: https://datasheet.ciiva.com/14920/pts645-14920734.pdf?src-supplier=Digikey; ComponentLink5Description: https://datasheet.ciiva.com/14920/pts645-14920734.pdf?src-supplier=Digikey; ComponentLink6URL: https://datasheet.ciiva.com/14920/pts645-14920735.pdf?src-supplier=Digikey; ComponentLink6Description: https://datasheet.ciiva.com/14920/pts645-14920735.pdf?src-supplier=Digikey; LCSC Part #: C221877
footprint PTS645(SMT)
pins: 1, 2, 3, 4

## R_0R_0402
designator R?, comment 0R
GENERAL PURPOSE CHIP RESISTOR Metal Glaze/thick Film, 0.0625W, 0ohm, Surface Mount, 0402; Manufacturer: Yageo Group; Manufacturer Part Number: RC0402JR-070RL; Max Power Dissipation: 63mW; Power Dissipation: 62.5mW; Value: 0Ω; Temperature Coefficient: 200ppm/°C; Tolerance: 5%; Voltage Rating: 50V; Supplier: DigiKey; Supplier Part Number: 311-0.0JRDKR-ND; RoHS: Compliant; Category: Chip SMD Resistors; Stock: 23041339; Pricing: 1=0.1, 10=0.010, 25=0.0064, 50=0.0054, 100=0.0047, 250=0.00392, 500=0.00346, 1000=0.00304, 5000=0.0023 (USD); Case/Package: 0402; Case Code (Imperial): 0402; China RoHS: Non-Compliant; Composition: Thick Film; Contact Plating: Tin; Depth: 500µm; Features: Moisture Resistant; Height: 350µm; Lead Free: Lead Free; Length: 1mm; Lifecycle Status: Production; Max Operating Temperature: 155°C; Military Standard: Not; Min Operating Temperature: -55°C; Mounting Technology: Surface Mount; Pins: 2; Number of Terminals: 2; Number of Terminations: 2; Packaging: Tape & Reel; Power Rating: 63mW; Radiation Hardening: No; REACH SVHC: Yes; Schedule B: 8533290000, 8533290000|8533290000, 8533290000|8533290000|8533290000, 8533290000|8533290000|8533290000|8533290000; Termination: SMD/SMT; Voltage Rating (DC): 50V; Width: 500µm; ComponentLink1URL: https://datasheet.octopart.com:443/RC0402JR-070RL-Yageo-datasheet-182189538.pdf?src-supplier=IHS; ComponentLink1Description: https://datasheet.octopart.com:443/RC0402JR-070RL-Yageo-datasheet-182189538.pdf?src-supplier=IHS; ComponentLink2URL: https://datasheet.octopart.com:443/RC0402JR-070RL-Yageo-datasheet-10408619.pdf?src-supplier=Newark; ComponentLink2Description: https://datasheet.octopart.com:443/RC0402JR-070RL-Yageo-datasheet-10408619.pdf?src-supplier=Newark; ComponentLink3URL: https://datasheet.octopart.com:443/RC0402JR-070RL-Yageo-datasheet-12531192.pdf?src-supplier=Seeed+Studio; ComponentLink3Description: https://datasheet.octopart.com:443/RC0402JR-070RL-Yageo-datasheet-12531192.pdf?src-supplier=Seeed+Studio; ComponentLink4URL: https://datasheet.octopart.com:443/RC0402JR-070RL-Yageo-datasheet-8324527.pdf?src-supplier=TME; ComponentLink4Description: https://datasheet.octopart.com:443/RC0402JR-070RL-Yageo-datasheet-8324527.pdf?src-supplier=TME; ComponentLink5URL: https://datasheet.octopart.com:443/RC0402JR-070RL-Yageo-datasheet-62067350.pdf?src-supplier=Farnell; ComponentLink5Description: https://datasheet.octopart.com:443/RC0402JR-070RL-Yageo-datasheet-62067350.pdf?src-supplier=Farnell; ComponentLink6URL: https://datasheet.octopart.com:443/RC0402JR-070RL-Yageo-datasheet-8329306.pdf?src-supplier=element14; ComponentLink6Description: https://datasheet.octopart.com:443/RC0402JR-070RL-Yageo-datasheet-8329306.pdf?src-supplier=element14; ComponentLink7URL: https://datasheet.octopart.com:443/RC0402JR-070RL-Yageo-datasheet-505231.pdf?src-supplier=element14; ComponentLink7Description: https://datasheet.octopart.com:443/RC0402JR-070RL-Yageo-datasheet-505231.pdf?src-supplier=element14; ComponentLink8URL: https://datasheet.octopart.com:443/RC0402JR-070RL-Yageo-datasheet-175423674.pdf?src-supplier=SOS+electronic; ComponentLink8Description: https://datasheet.octopart.com:443/RC0402JR-070RL-Yageo-datasheet-175423674.pdf?src-supplier=SOS+electronic; ComponentLink9URL: https://datasheet.octopart.com:443/RC0402JR-070RL-Yageo-datasheet-164759695.pdf?src-supplier=Future+Electronics; ComponentLink9Description: https://datasheet.octopart.com:443/RC0402JR-070RL-Yageo-datasheet-164759695.pdf?src-supplier=Future+Electronics; ComponentLink10URL: https://datasheet.octopart.com:443/RC0402JR-070RL-Yageo-datasheet-137700087.pdf?src-supplier=Future+Electronics; ComponentLink10Description: https://datasheet.octopart.com:443/RC0402JR-070RL-Yageo-datasheet-137700087.pdf?src-supplier=Future+Electronics; ComponentLink11URL: https://datasheet.octopart.com/RC0402JR-070RL-Yageo-datasheet-73766026.pdf; ComponentLink11Description: https://datasheet.octopart.com/RC0402JR-070RL-Yageo-datasheet-73766026.pdf; ComponentLink12URL: http://sigma.octopart.com:80/rohs_statement/Yageo-company-2.pdf?src-supplier=Compliance+Statements; ComponentLink12Description: http://sigma.octopart.com:80/rohs_statement/Yageo-company-2.pdf?src-supplier=Compliance+Statements; ComponentLink13URL: http://sigma.octopart.com:80/conflict_mineral_statement/Yageo-company-3.pdf?src-supplier=Compliance+Statements; ComponentLink13Description: http://sigma.octopart.com:80/conflict_mineral_statement/Yageo-company-3.pdf?src-supplier=Compliance+Statements; LCSC Part #: C60485
footprint 0402_R
pins: 1, 2